# EAGLE library part L298NG (library My lib)
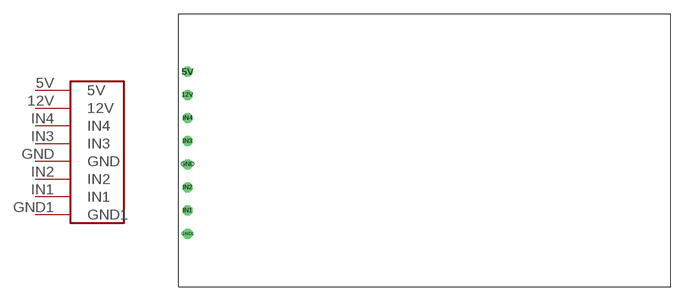
[diagram p5: symbol with the pads of L298NG; footprint L298NG]

Designator prefix -

## L298NG  [L298NG]
5V  5V
12V  12V
GND  GND
GND1  GND1
IN1  IN1
IN2  IN2
IN3  IN3
IN4  IN4

## Footprint L298NG (pad centres in mm)
drill 0.6 octagon: 5V 0,7.62; 12V 0,5.08; GND 0,-2.54; GND1 0,-10.16; IN1 0,-7.62; IN2 0,-5.08; IN3 0,0; IN4 0,2.54